# Altium schematic symbol library vmorais_libraries.SchLib: 65 symbols
Pins are listed as number, name and electrical type; pins without a type are passive.

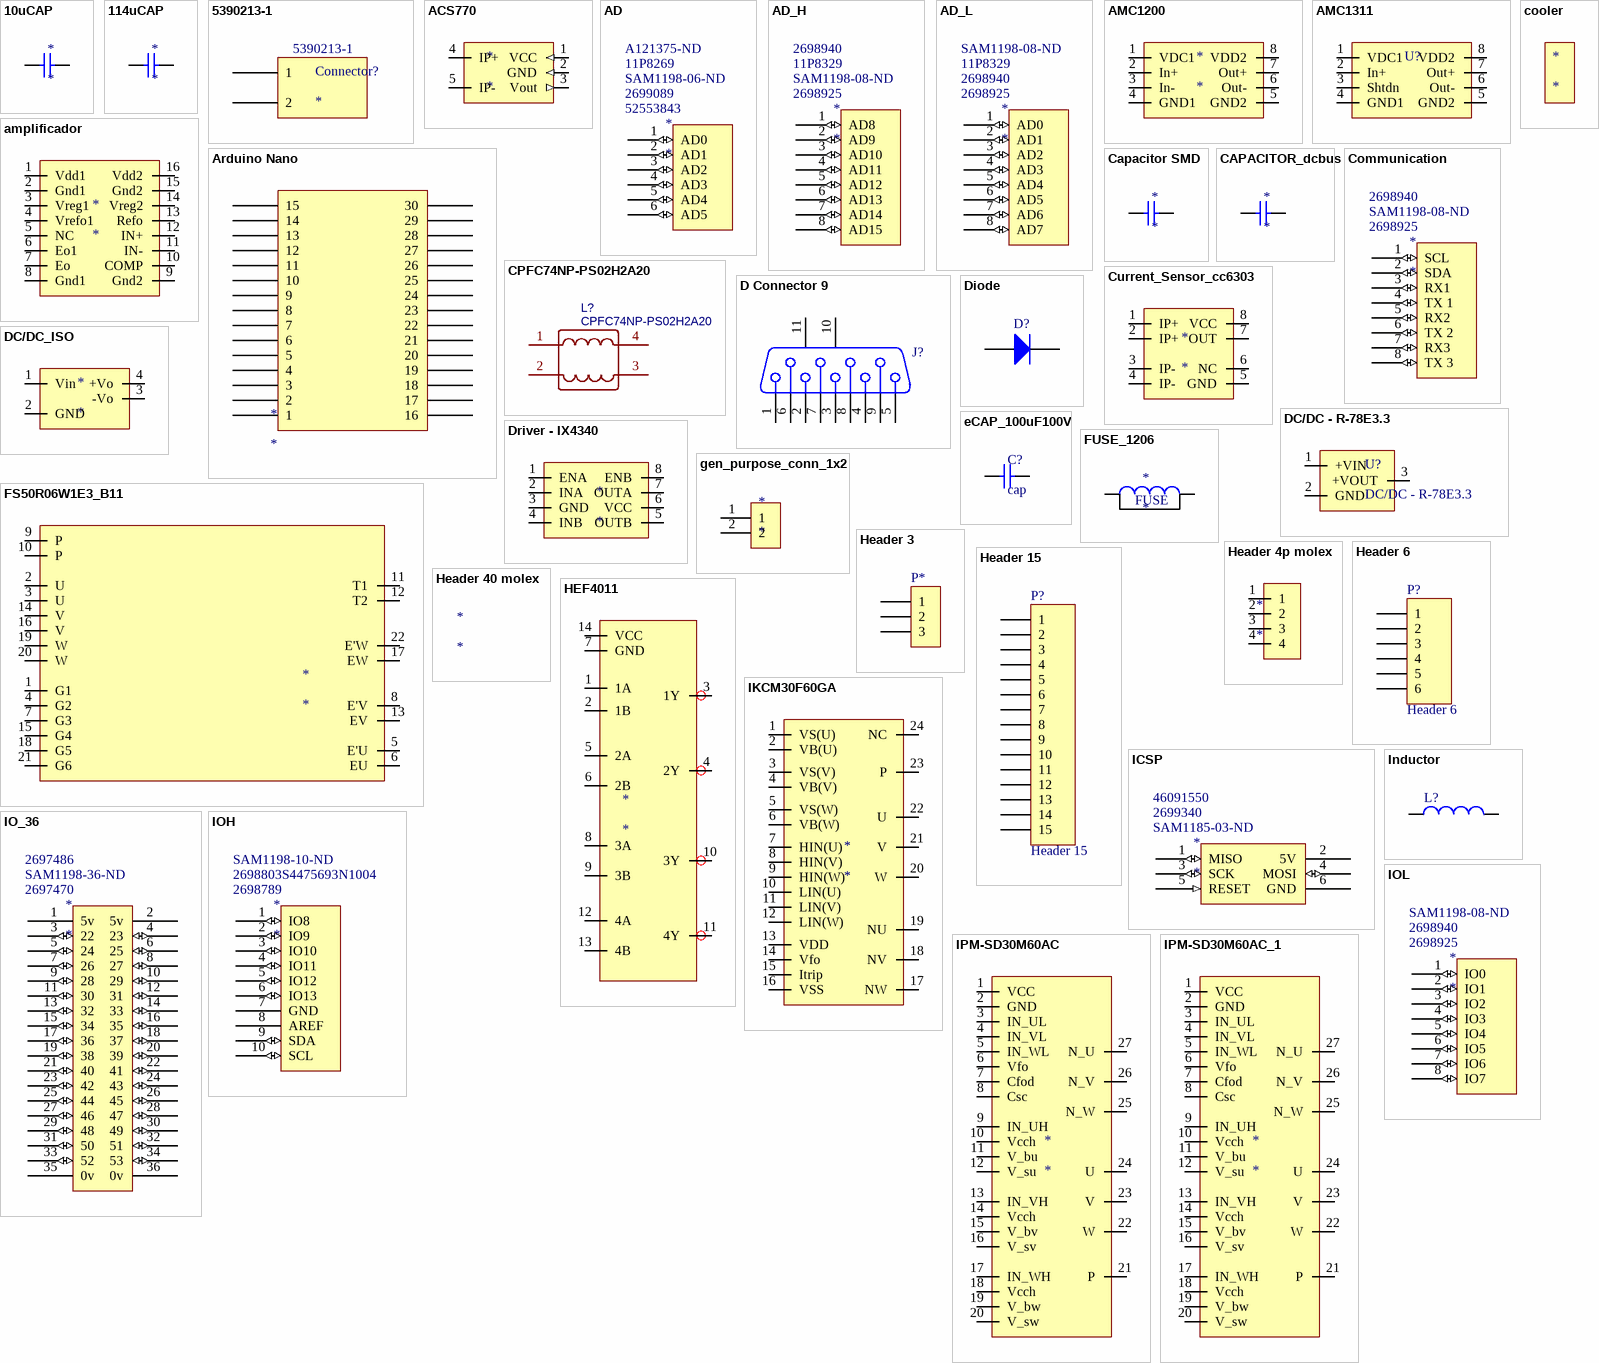
[diagram p0: symbols 10uCAP to IPM-SD30M60AC_1]

## 10uCAP
designator *
VPN: 75-MKP1848610704K2
footprint 10uCAP
pins: 1, 2

## 114uCAP
designator *
VPN: 505-DCP5-114/900/10
footprint 114uCAP (10uCAP)
pins: 1, 2

## 5390213-1
designator Connector?  Manufacturer Part Number: 5390213-1
CONN SKT DIMM 100POS PCB; Manufacturer: TE Connectivity AMP Connectors; Number of Positions: 100; Memory Type: DRAM; Standards: MO-161; Supplier 1: Digi-Key; RoHS: RoHS Compliant; Category: Connectors, Interconnects; Stock 1: 880; Pricing 1: 1=3.8, 10=3.648, 50=3.1916, 100=3.0397, 250=2.65972, 500=2.58372, 1000=2.20377, 2500=2.05178 (EUR); Packaging: Tube; Part Status: Active; Connector Style: DIMM; Mounting Type: Through Hole; Features: Board Guide, Latches; Mounting Feature: Normal, Standard - Top; Contact Finish: Gold; Contact Finish Thickness: 15µin (0.38µm); ComponentLink1URL: http://www.te.com/commerce/DocumentDelivery/DDEController?Action=srchrtrv&DocNm=5390213&DocType=Customer+Drawing&DocLang=English; ComponentLink1Description: http://www.te.com/commerce/DocumentDelivery/DDEController?Action=srchrtrv&DocNm=5390213&DocType=Customer+Drawing&DocLang=English; Supplier Part Number 1: A121375-ND
pins: 1, 2

## ACS770
designator *
footprint ACS770 (Connector; Header; 3 Position)
pins: 1 VCC (in), 2 GND (in), 3 Vout (out), 4 IP+ (power), 5 IP- (power)

## AD
designator *  Supplier Part Number 1: 52553843  Supplier Part Number 2: 2699089  Supplier Part Number 3: SAM1198-06-ND  Supplier Part Number 4: 11P8269  Supplier Part Number 5: A121375-ND
Supplier 1: Arrow; Supplier 2: Arrow; Supplier 3: Digi-Key; Supplier 4: Newark; Supplier 5: Digi-Key
footprint Header 6x1 8.5mm (Stackable 6 pin header)
pins: 1 AD0 (io), 2 AD1 (io), 3 AD2 (io), 4 AD3 (io), 5 AD4 (io), 6 AD5 (io)

## AD_H
designator *  Supplier Part Number 1: 2698925  Supplier Part Number 2: SAM1198-08-ND  Supplier Part Number 3: 11P8329  Supplier Part Number 4: 2698940
Supplier 1: Arrow; Supplier 2: Digi-Key; Supplier 3: Newark; Supplier 4: Arrow
footprint connector1x2_parafuso (Connector; Header; 2 Position)
pins: 1 AD8 (io), 2 AD9 (io), 3 AD10 (io), 4 AD11 (io), 5 AD12 (io), 6 AD13 (io), 7 AD14 (io), 8 AD15 (io)

## AD_L
designator *  Supplier Part Number 1: 2698925  Supplier Part Number 2: 2698940  Supplier Part Number 3: 11P8329  Supplier Part Number 4: SAM1198-08-ND
Supplier 1: Arrow; Supplier 2: Arrow; Supplier 3: Newark; Supplier 4: Digi-Key
footprint Header 8x1 8.5mm (Stackable 8 pin header)
pins: 1 AD0 (io), 2 AD1 (io), 3 AD2 (io), 4 AD3 (io), 5 AD4 (io), 6 AD5 (io), 7 AD6 (io), 8 AD7 (io)

## AMC1200
designator *
footprint AMC1200 - SOIC8
pins: 1 VDC1, 2 In+, 3 In-, 4 GND1, 5 GND2, 6 Out-, 7 Out+, 8 VDD2

## AMC1311
designator U?  (value not drawn)
footprint AMC1311 - SOIC8
pins: 1 VDC1, 2 In+, 3 Shtdn, 4 GND1, 5 GND2, 6 Out-, 7 Out+, 8 VDD2

## amplificador
designator *
footprint amplificador (SOP, 16-Leads, Body 4,90x3,91mm, Pitch 0,64mm, IPC Medium Density)
pins: 1 Vdd1, 2 Gnd1, 3 Vreg1, 4 Vrefo1, 5 NC, 6 Eo1, 7 Eo, 8 Gnd1, 9 Gnd2, 10 COMP, 11 IN-, 12 IN+, 13 Refo, 14 Vreg2, 15 Gnd2, 16 Vdd2

## Arduino Nano
designator *
footprint ARDUINO NANO
pins: 1, 2, 3, 4, 5, 6, 7, 8, 9, 10, 11, 12, 13, 14, 15, 16, 17, 18, 19, 20, 21, 22, 23, 24, 25, 26, 27, 28, 29, 30

## Capacitor SMD
designator *
Capacitor SMD
pins: 1, 2

## CAPACITOR_dcbus
designator *
VPN: 505-DCP5-114/900/10
footprint Capacitor_DCBUS
pins: 1, 2

## Communication
designator *  Supplier Part Number 1: 2698925  Supplier Part Number 2: SAM1198-08-ND  Supplier Part Number 3: 2698940
Supplier 1: Arrow; Supplier 2: Digi-Key; Supplier 3: Arrow
footprint Header 8x1 8.5mm (Stackable 8 pin header)
pins: 1 SCL (io), 2 SDA (io), 3 RX1 (io), 4 TX 1 (io), 5 RX2 (io), 6 TX 2 (io), 7 RX3 (io), 8 TX 3 (io)

## cooler
designator *
footprint COOLER

## CPFC74NP-PS02H2A20
designator L?
BOM_Manufacturer: Sumida; nameAlias: Value; Contributor: LCSC; SMT Type: Extend; BOM_Supplier: LCSC; BOM_Manufacturer Part: CPFC74NP-PS02H2A20; BOM_Supplier Part: C167312; BOM_LCSC Assembly: Yes; spicePre: L; spiceSymbolName: CPFC74NP-PS02H2A20
footprint FILTER-SMD_4P-L9.5-W5.5-BL
pins: 1, 2, 3, 4

## Current_Sensor_cc6303
designator *
footprint CC6303_SOP8 (SOP, 8-Leads, Body 4,90x3,91mm, Pitch 1,27mm, IPC Medium Density)
pins: 1 IP+, 2 IP+, 3 IP-, 4 IP-, 5 GND, 6 NC, 7 OUT, 8 VCC

## D Connector 9
designator J?
Receptacle Assembly, 9 Position, Right Angle; PackageDocument: O; Positions: 9; Published: 15-Jun-2001; LatestRevisionDate: 17-Jul-2002; LatestRevisionNote: Re-released for DXP Platform.; DatasheetDocument: 1-Sep-1999; PackageReference: 788750; Publisher: Altium Limited; Orientation: Right Angle; Gender: Receptacle
footprint DSUB1.385-2H9 (Connector; D Subminiature; 9 Position; Right Angle; Pitch 1.385 mm)
signal-integrity model Connector
pins: 1, 2, 3, 4, 5, 6, 7, 8, 9, 10 MH1, 11 MH2

## DC/DC - R-78E3.3
designator U?
footprint DC/DC - R-78E3.3
pins: 1 +VIN, 2 GND, 3 +VOUT

## DC/DC_ISO
designator *
footprint DC/DC_ISO
pins: 1 Vin, 2 GND, 3 -Vo, 4 +Vo

## Diode
designator D?
Default Diode; Published: 8-Jun-2000; LatestRevisionDate: 17-Jul-2002; LatestRevisionNote: Re-released for DXP Platform.; PackageVersion: Sep-1996; PackageReference: SMC; Publisher: Altium Limited; PackageDescription: DO-214-AB/SMC; 2 C-Bend Leads; Body 7.9 x 5.9 mm, inc. leads (LxW); Code_JEDEC: DO-214-AB
pins: 1 A, 2 K

## Driver - IX4340
designator *
footprint SOIC-MIC4126 (SOIC, 8-Leads, Body 5,08x3,95mm, Pitch 1,27mm, IPC Medium Density)
pins: 1 ENA, 2 INA, 3 GND, 4 INB, 5 OUTB, 6 VCC, 7 OUTA, 8 ENB

## eCAP_100uF100V
designator C?, comment cap
VPN: 75-MKP1848610704K2; LCSC: C224948
footprint eCAPC_4953 (Aluminum Electrolytic Capacitor, Body 13,00x13,00x13,50mm, IPC Low Density)
pins: 1, 2

## FS50R06W1E3_B11
designator *
footprint FS50R06W1E3_B11
pins: 1 G1 (power), 2 U (power), 3 U (power), 4 G2 (power), 5 E'U (power), 6 EU (power), 7 G3 (power), 8 E'V (power), 9 P (power), 10 P (power), 11 T1 (power), 12 T2 (power), 13 EV (power), 14 V (power), 15 G4 (power), 16 V (power), 17 EW (power), 18 G5 (power), 19 W (power), 20 W (power), 21 G6 (power), 22 E'W (power)

## FUSE_1206
designator *
footprint FUSE_1206 (Chip Diode; Body 3.2 x 1.6 mm (LxW typ))
pins: 1, 2
text: FUSE

## gen_purpose_conn_1x2
designator *
footprint connector1x2_parafuso (Connector; Header; 2 Position)
pins: 1, 2

## Header 3
designator P*  (value not drawn)
Header, 3 pin
signal-integrity model Connector
pins: 1, 2, 3

## Header 4p molex
designator *
footprint HEADER 4p molex (header 4p)
pins: 1, 2, 3, 4

## Header 6
designator P?
Header, 6-Pin; LatestRevisionDate: 17-Jul-2002; LatestRevisionNote: Re-released for DXP Platform.; Publisher: Altium Limited
footprint HDR1X6 (Connector; Header; 6 Position)
signal-integrity model Connector
pins: 1, 2, 3, 4, 5, 6

## Header 15
designator P?
Header, 15-Pin; LatestRevisionDate: 17-Jul-2002; LatestRevisionNote: Re-released for DXP Platform.; Publisher: Altium Limited
footprint HDR1X15 (Connector; Header; 15 Position)
signal-integrity model Connector
pins: 1, 2, 3, 4, 5, 6, 7, 8, 9, 10, 11, 12, 13, 14, 15

## Header 40 molex
designator *

## HEF4011
designator *
footprint SOIC-14N (SOIC, 14-Leads, Body 8,65x3,90mm, Pitch 1,27mm, IPC Medium Density)
pins: 1 1A, 2 1B, 3 1Y, 4 2Y, 5 2A, 6 2B, 7 GND, 8 3A, 9 3B, 10 3Y, 11 4Y, 12 4A, 13 4B, 14 VCC

## ICSP
designator *  Supplier Part Number 1: SAM1185-03-ND  Supplier Part Number 2: 2699340  Supplier Part Number 3: 46091550
Supplier 1: Digi-Key; Supplier 2: Arrow; Supplier 3: Arrow
footprint ICSP
pins: 1 MISO (io), 2 5V (power), 3 SCK (io), 4 MOSI (io), 5 RESET (in), 6 GND (power)

## IKCM30F60GA
designator *
footprint ikcm30f60ga
pins: 1 VS(U), 2 VB(U), 3 VS(V), 4 VB(V), 5 VS(W), 6 VB(W), 7 HIN(U), 8 HIN(V), 9 HIN(W), 10 LIN(U), 11 LIN(V), 12 LIN(W), 13 VDD, 14 Vfo, 15 Itrip, 16 VSS, 17 NW, 18 NV, 19 NU, 20 W, 21 V, 22 U, 23 P, 24 NC

## Inductor
designator L?
Inductor; Code_IEC: 1005; Published: 8-Jun-2000; LatestRevisionDate: 29-May-2009; LatestRevisionNote: IPC-7351 Footprint Added.; PackageReference: 0402-A; Publisher: Altium Limited; PackageDescription: Chip Inductor; Code_JEITA: 0402
footprint 0402-A (Chip Inductor, Body 1.0x0.5mm, IPC High Density)
footprint INDC1608L (Chip Inductor, Body 1.6x0.8mm, IPC High Density)
footprint 2029 (Chip Inductor, Body 2.0x1.2mm, IPC High Density)
footprint 0603 (Chip Inductor, Body 0.6x0.3mm, IPC High Density)
footprint INDC3216 (Chip Inductor, Body 3.2x1.6mm, IPC High Density)
footprint INDC4532 (Chip Inductor, Body 4.5x3.2mm, IPC High Density)
simulation model INDUCTOR (Inductor)
signal-integrity model Inductor
pins: 1, 2

## IO_36
designator *  Supplier Part Number 1: 2697470  Supplier Part Number 2: SAM1198-36-ND  Supplier Part Number 3: 2697486
Supplier 1: Arrow; Supplier 2: Digi-Key; Supplier 3: Arrow
footprint HEADER 36X 8MM (Stackable 10 pin header)
pins: 1 5v (power), 2 5v (power), 3 22 (io) "Digital 22", 4 23 (io) "Digital 23", 5 24 (io) "Digital 24", 6 25 (io) "Digital 25", 7 26 (io) "Digital 26", 8 27 (io) "Digital 27", 9 28 (io) "Digital 28", 10 29 (io) "Digital 29", 11 30 (io) "Digital 30", 12 31 (io) "Digital 31", 13 32 (io) "Digital 32", 14 33 (io) "Digital 33", 15 34 (io) "Digital 34", 16 35 (io) "Digital 35", 17 36 (io) "Digital 36", 18 37 (io) "Digital 37", 19 38 (io) "Digital 38", 20 39 (io) "Digital 39", 21 40 (io) "Digital 40", 22 41 (io) "Digital 41", 23 42 (io) "Digital 42", 24 43 (io) "Digital 43", 25 44 (io) "Digital 44", 26 45 (io) "Digital 45", 27 46 (io) "Digital 46", 28 47 (io) "Digital 47", 29 48 (io) "Digital 48", 30 49 (io) "Digital 49", 31 50 (io) "Digital 50", 32 51 (io) "Digital 51", 33 52 (io) "Digital 52", 34 53 (io) "Digital 53", 35 0v (power), 36 0v (power)

## IOH
designator *  Supplier Part Number 1: 2698789  Supplier Part Number 2: 2698803S4475693N1004  Supplier Part Number 3: SAM1198-10-ND
Supplier 1: Arrow; Supplier 2: Arrow; Supplier 3: Digi-Key
footprint Header 10x1 8.5mm (Stackable 10 pin header)
pins: 1 IO8 (io), 2 IO9 (io), 3 IO10 (io), 4 IO11 (io), 5 IO12 (io), 6 IO13 (io), 7 GND (power), 8 AREF, 9 SDA (io), 10 SCL (io)

## IOL
designator *  Supplier Part Number 1: 2698925  Supplier Part Number 2: 2698940  Supplier Part Number 3: SAM1198-08-ND
Supplier 1: Arrow; Supplier 2: Arrow; Supplier 3: Digi-Key
footprint Header 8x1 8.5mm (Stackable 8 pin header)
pins: 1 IO0 (io), 2 IO1 (io), 3 IO2 (io), 4 IO3 (io), 5 IO4 (io), 6 IO5 (io), 7 IO6 (io), 8 IO7 (io)

## IPM-SD30M60AC
designator *
footprint IPM-SD30M60AC
pins: 1 VCC, 2 GND, 3 IN_UL, 4 IN_VL, 5 IN_WL, 6 Vfo, 7 Cfod, 8 Csc, 9 IN_UH, 10 Vcch, 11 V_bu, 12 V_su, 13 IN_VH, 14 Vcch, 15 V_bv, 16 V_sv, 17 IN_WH, 18 Vcch, 19 V_bw, 20 V_sw, 21 P, 22 W, 23 V, 24 U, 25 N_W, 26 N_V, 27 N_U

## IPM-SD30M60AC_1
designator *
footprint IPM-SD30M60AC
pins: 1 VCC, 2 GND, 3 IN_UL, 4 IN_VL, 5 IN_WL, 6 Vfo, 7 Cfod, 8 Csc, 9 IN_UH, 10 Vcch, 11 V_bu, 12 V_su, 13 IN_VH, 14 Vcch, 15 V_bv, 16 V_sv, 17 IN_WH, 18 Vcch, 19 V_bw, 20 V_sw, 21 P, 22 W, 23 V, 24 U, 25 N_W, 26 N_V, 27 N_U

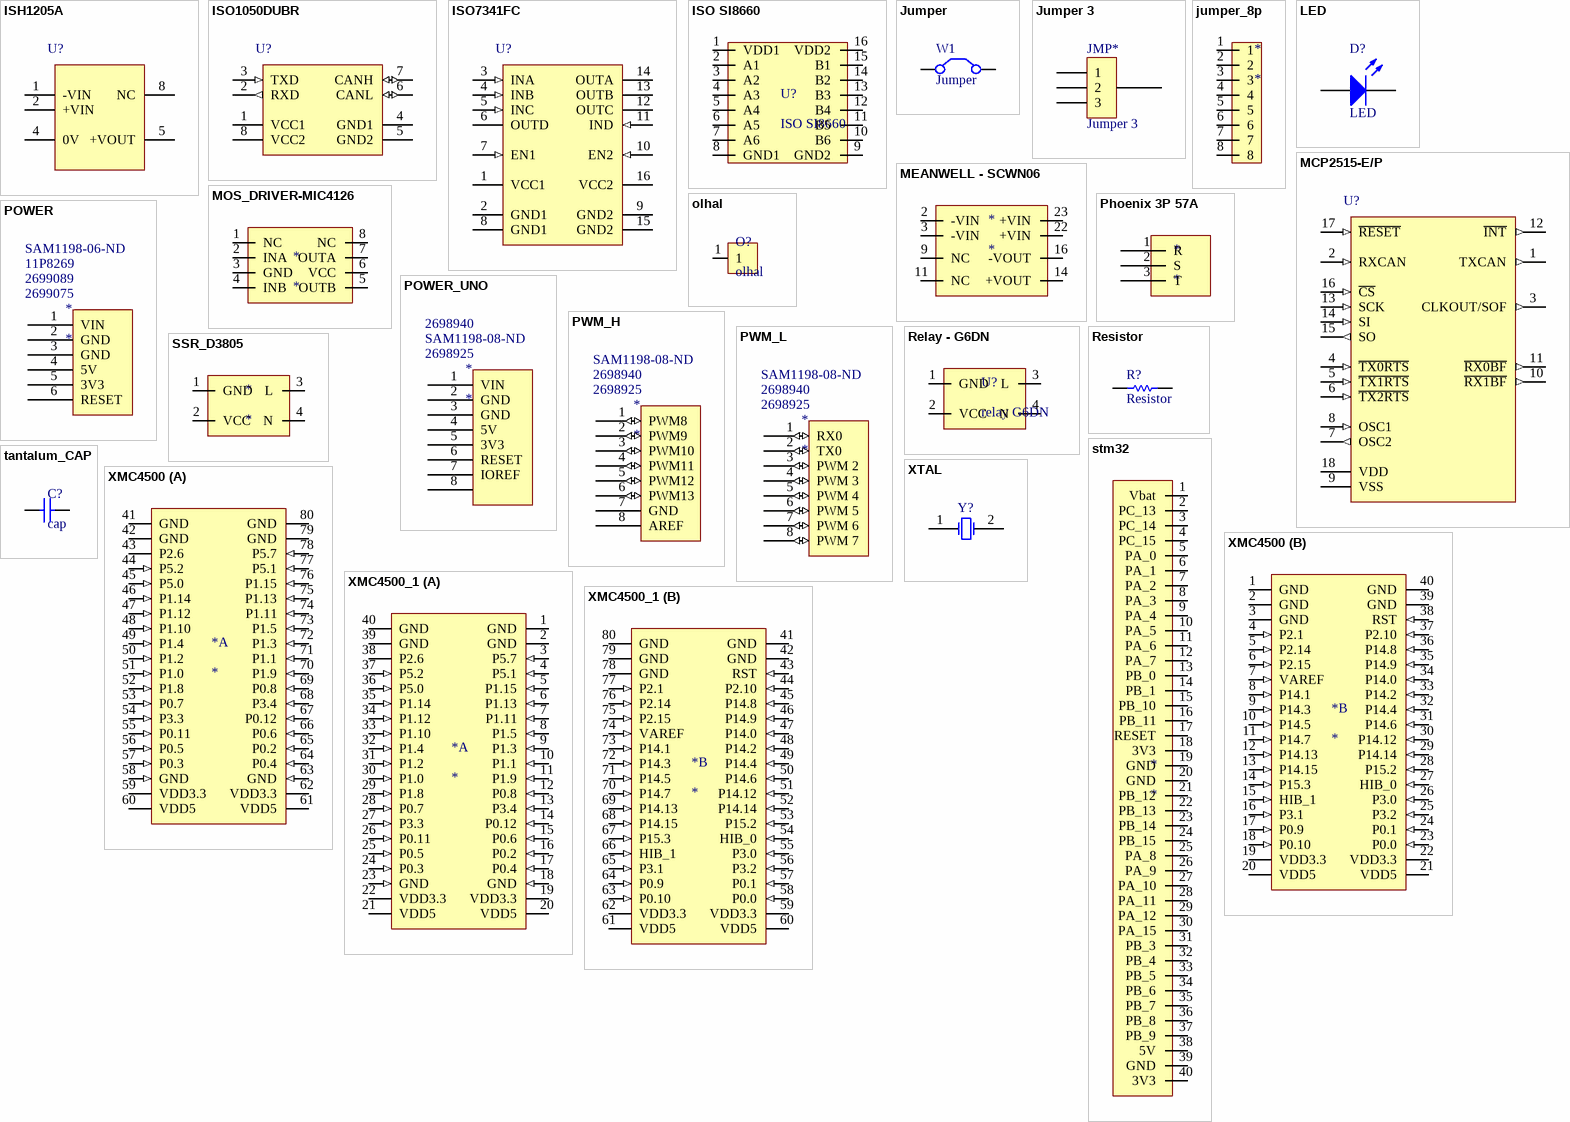
[diagram p1: symbols ISH1205A to XTAL]

## ISH1205A
designator U?
Isolated Module DC DC Converter 1 Output 5V 400mA 10.8V - 13.2V Input
footprint DUB8_M (SOP, 8-Leads, Body 9.5x6.62mm, Pitch 2.54mm, IPC Low Density)
footprint DUB8_L (SOP, 8-Leads, Body 9.5x6.62mm, Pitch 2.54mm, IPC High Density)
footprint DUB8_M (SOP, 8-Leads, Body 9.5x6.62mm, Pitch 2.54mm, IPC Low Density)
pins: 1 -VIN (power), 2 +VIN (power), 4 0V (power), 5 +VOUT (power), 8 NC (power)

## ISO1050DUBR
designator U?
Isolated CAN Transceiver, -55 to 105 degC, 8-pin SOP (DUB), Green (RoHS & no Sb/Br)
footprint DUB8_M (SOP, 8-Leads, Body 9.5x6.62mm, Pitch 2.54mm, IPC Low Density)
footprint DUB8_L (SOP, 8-Leads, Body 9.5x6.62mm, Pitch 2.54mm, IPC High Density)
footprint DUB8_M (SOP, 8-Leads, Body 9.5x6.62mm, Pitch 2.54mm, IPC Low Density)
pins: 1 VCC1 (power), 2 RXD (out), 3 TXD (in), 4 GND1 (power), 5 GND2 (power), 6 CANL (io), 7 CANH (io), 8 VCC2 (power)

## ISO7341FC
designator U?
25 Mbps Quad Channels, 3 / 1, Digital Isolator, 3.3 V / 5 V, -40 to +125 degC, 16-pin SOIC (DW), Green (RoHS & no Sb/Br); Manufacturer: Texas Instruments; PartNumber: ISO7241CDWR; Datarate(Mbps): 25; Input Noise Filter: Yes; Insulation Rating(VRMS): 2500; Prop Delay(Max)(ns): 42; Rating: Catalog; Supply Voltage(s)(V): 3.3, 5; TTL/CMOS Input Threshold: TTL; DatasheetVersion: SLLS868N; PackageVersion: 4040000-2/G, 01/2011; PackageReference: DW0016A; PackageDescription: 16-Pin Plastic Small Outline, Body 10.30 x 7.50 mm, Pitch 1.27 mm; Supplier 1: Digi-Key; Supplier Part Number 1: ISO7241CDWR-ND; Supplier 2: Newark; Supplier Part Number 2: 73M3156; Supplier 3: Mouser; Supplier Part Number 3: 595-ISO7241CDWR; SubFamily: Isolator; Thermal Shutdown: No; MountType: SMT; Code_JEDEC: MS-013; ComponentLink1Description: Manufacturer URL; ComponentLink1URL: http://www.ti.com/; ComponentLink2Description: Datasheet; ComponentLink2URL: http://www.ti.com/general/docs/lit/getliterature.tsp?genericPartNumber=ISO7241C&fileType=pdf; ComponentLink3Description: Package Specification; ComponentLink3URL: http://www.ti.com/litv/pdf/msoi003g; ComponentLink4Description: SamplesURL; ComponentLink4URL: http://www.ti.com/product/iso7241c#samples
footprint DW0016A_N (SOIC, 16-Leads, Body 10.5x7.6mm, Pitch 1.27mm, IPC Medium Density)
footprint DW0016A_L (SOIC, 16-Leads, Body 10.5x7.6mm, Pitch 1.27mm, IPC High Density)
footprint DW0016A_M (SOIC, 16-Leads, Body 10.5x7.6mm, Pitch 1.27mm, IPC Low Density)
pins: 1 VCC1 (power), 2 GND1 (power), 3 INA (in), 4 INB (in), 5 INC (in), 6 OUTD (hiz), 7 EN1 (in), 8 GND1 (power), 9 GND2 (power), 10 EN2 (in), 11 IND (in), 12 OUTC (hiz), 13 OUTB (hiz), 14 OUTA (hiz), 15 GND2 (power), 16 VCC2 (power)

## ISO SI8660
designator U?
footprint SOIC127P610X155-16N (SOIC, 16-Leads, Body 10,05x3,95mm, Pitch 1,27mm, IPC Medium Density)
pins: 1 VDD1, 2 A1, 3 A2, 4 A3, 5 A4, 6 A5, 7 A6, 8 GND1, 9 GND2, 10 B6, 11 B5, 12 B4, 13 B3, 14 B2, 15 B1, 16 VDD2

## Jumper
designator W1
Jumper Wire; Published: 24-Mar-1999; LatestRevisionDate: 17-Jul-2002; LatestRevisionNote: Re-released for DXP Platform.; PackageReference: RAD-0.2; Publisher: Altium Limited; PackageDescription: Radial Cap, Thru-Hole; 2 Leads; 0.2 in Pin Spacing
footprint RAD-0.2 (Radial Cap, Thru-Hole; 2 Leads; 0.2 in Pin Spacing)
pins: 1 C1, 2 C2

## Jumper 3
designator JMP*
Jumper, 3 pin
signal-integrity model Connector
pins: 1, 2, 2, 3

## jumper_8p
designator *
footprint Header 8x1 8.5mm (Stackable 8 pin header)
pins: 1, 2, 3, 4, 5, 6, 7, 8

## LED
designator D?
pins: 1 A, 2 K

## MCP2515-E/P
designator U?
Stand-Alone CAN Controller With SPI Interface, 18-Pin PDIP, Extended Temperature; Manufacturer: Microchip; PartNumber: MCP2515-E/P; DatasheetVersion: revF, Oct-2010; PackageVersion: revBB, Aug-2009; PackageReference: PDIP300-P18; PackageDescription: 18-Lead Plastic Dual In-Line (P) - 300 mil Body [PDIP]; Supplier 1: Digi-Key; Supplier Part Number 1: MCP2515-E/P-ND; Supplier 2: Newark; Supplier Part Number 2: 29H7133; Supplier 3: Mouser; Supplier Part Number 3: 579-MCP2515-E/P; Mounting Technology: Through Hole; Code_JEDEC: MS-001; ComponentLink1Description: Manufacturer URL; ComponentLink1URL: http://www.microchip.com/; ComponentLink2Description: Datasheet; ComponentLink2URL: http://ww1.microchip.com/downloads/en/DeviceDoc/21801f.pdf; ComponentLink3Description: Package Specification; ComponentLink3URL: http://www.microchip.com/stellent/groups/techpub_sg/documents/packagingspec/en012702.pdf
footprint SOIC-SO18_M (SOIC, 18-Leads, Body 11.5x7.5mm, Pitch 1.27mm, IPC Low Density)
pins: 1 TXCAN (out), 2 RXCAN (in), 3 CLKOUT/SOF (out), 4 ~{TX0RTS} (in), 5 ~{TX1RTS} (in), 6 ~{TX2RTS} (in), 7 OSC2 (out), 8 OSC1 (in), 9 VSS (power), 10 ~{RX1BF} (out), 11 ~{RX0BF} (out), 12 ~{INT} (out), 13 SCK (in), 14 SI (in), 15 SO (out), 16 ~{CS} (in), 17 ~{RESET} (in), 18 VDD (power)

## MEANWELL - SCWN06
designator *
footprint MeanWell SCWNo6
pins: 2 -VIN, 3 -VIN, 9 NC, 11 NC, 14 +VOUT, 16 -VOUT, 22 +VIN, 23 +VIN

## MOS_DRIVER-MIC4126
designator *
footprint SOIC-MIC4126 (SOIC, 8-Leads, Body 5,08x3,95mm, Pitch 1,27mm, IPC Medium Density)
pins: 1 NC, 2 INA, 3 GND, 4 INB, 5 OUTB, 6 VCC, 7 OUTA, 8 NC

## olhal
designator O?
footprint Olhal
pins: 1

## Phoenix 3P 57A
designator *
footprint Phoenix 3p 57A
pins: 1 R, 2 S, 3 T

## POWER
designator *  Supplier Part Number 1: 2699075  Supplier Part Number 2: 2699089  Supplier Part Number 3: 11P8269  Supplier Part Number 4: SAM1198-06-ND
Supplier 1: Arrow; Supplier 2: Arrow; Supplier 3: Newark; Supplier 4: Digi-Key
footprint Header 6x1 8.5mm (Stackable 6 pin header)
pins: 1 VIN (power), 2 GND (power), 3 GND (power), 4 5V (power), 5 3V3 (power), 6 RESET

## POWER_UNO
designator *  Supplier Part Number 1: 2698925  Supplier Part Number 2: SAM1198-08-ND  Supplier Part Number 3: 2698940
Supplier 1: Arrow; Supplier 2: Digi-Key; Supplier 3: Arrow
footprint Header 8x1 8.5mm (Stackable 8 pin header)
pins: 1 VIN (power), 2 GND (power), 3 GND (power), 4 5V (power), 5 3V3 (power), 6 RESET, 7 IOREF (power), 8

## PWM_H
designator *  Supplier Part Number 1: 2698925  Supplier Part Number 2: 2698940  Supplier Part Number 3: SAM1198-08-ND
Supplier 1: Arrow; Supplier 2: Arrow; Supplier 3: Digi-Key
footprint Header 8x1 8.5mm (Stackable 8 pin header)
pins: 1 PWM8 (io) "PWM 8", 2 PWM9 (io) "PWM 9", 3 PWM10 (io) "PWM 10", 4 PWM11 (io) "PWM 11", 5 PWM12 (io) "PWM 12", 6 PWM13 (io) "PWM 13", 7 GND (power), 8 AREF

## PWM_L
designator *  Supplier Part Number 1: 2698925  Supplier Part Number 2: 2698940  Supplier Part Number 3: SAM1198-08-ND
Supplier 1: Arrow; Supplier 2: Arrow; Supplier 3: Digi-Key
footprint Header 8x1 8.5mm (Stackable 8 pin header)
pins: 1 RX0 (io) "PWM 0 & RX0", 2 TX0 (io) "PWM 1 & TX0", 3 PWM 2 (io), 4 PWM 3 (io), 5 PWM 4 (io), 6 PWM 5 (io), 7 PWM 6 (io), 8 PWM 7 (io)

## Relay - G6DN
designator U?, comment relay G6DN
footprint Relay - G6DN
pins: 1 GND, 2 VCC, 3 L, 4 N

## Resistor
designator R?
pins: 1, 2

## SSR_D3805
designator *
footprint SSR_D3805HK
pins: 1 GND, 2 VCC, 3 L, 4 N

## stm32
designator *
footprint STM32
pins: 1 Vbat, 2 PC_13, 3 PC_14, 4 PC_15, 5 PA_0, 6 PA_1, 7 PA_2, 8 PA_3, 9 PA_4, 10 PA_5, 11 PA_6, 12 PA_7, 13 PB_0, 14 PB_1, 15 PB_10, 16 PB_11, 17 RESET, 18 3V3, 19 GND, 20 GND, 21 PB_12, 22 PB_13, 23 PB_14, 24 PB_15, 25 PA_8, 26 PA_9, 27 PA_10, 28 PA_11, 29 PA_12, 30 PA_15, 31 PB_3, 32 PB_4, 33 PB_5, 34 PB_6, 35 PB_7, 36 PB_8, 37 PB_9, 38 5V, 39 GND, 40 3V3

## tantalum_CAP
designator C?, comment cap
VPN: 75-MKP1848610704K2; LCSC: C224948
footprint CAPC_2917 (Chip Capacitor, 2-Leads, Body 7,30x4,20mm, IPC Medium Density)
pins: 1, 2

## XMC4500
designator *
footprint XMC4500
part A pins: 41 GND (power), 42 GND (power), 43 P2.6 (power), 44 P5.2 (in), 45 P5.0 (in), 46 P1.14 (in), 47 P1.12 (in), 48 P1.10 (in), 49 P1.4 (in), 50 P1.2 (in), 51 P1.0 (in), 52 P1.8 (in), 53 P0.7 (in), 54 P3.3 (in), 55 P0.11 (in), 56 P0.5 (in), 57 P0.3 (in), 58 GND (in), 59 VDD3.3 (power), 60 VDD5 (power), 61 VDD5 (power), 62 VDD3.3 (power), 63 GND (in), 64 P0.4 (in), 65 P0.2 (in), 66 P0.6 (in), 67 P0.12 (in), 68 P3.4 (in), 69 P0.8 (in), 70 P1.9 (in), 71 P1.1 (in), 72 P1.3 (in), 73 P1.5 (in), 74 P1.11 (in), 75 P1.13 (in), 76 P1.15 (in), 77 P5.1 (in), 78 P5.7 (in), 79 GND (power), 80 GND (power)
part B pins: 1 GND (power), 2 GND (power), 3 GND (power), 4 P2.1 (in), 5 P2.14 (in), 6 P2.15 (in), 7 VAREF (in), 8 P14.1 (in), 9 P14.3 (in), 10 P14.5 (in), 11 P14.7 (in), 12 P14.13 (in), 13 P14.15 (in), 14 P15.3 (in), 15 HIB_1 (in), 16 P3.1 (in), 17 P0.9 (in), 18 P0.10 (in), 19 VDD3.3 (power), 20 VDD5 (power), 21 VDD5 (power), 22 VDD3.3 (power), 23 P0.0 (in), 24 P0.1 (in), 25 P3.2 (in), 26 P3.0 (in), 27 HIB_0 (in), 28 P15.2 (in), 29 P14.14 (in), 30 P14.12 (in), 31 P14.6 (in), 32 P14.4 (in), 33 P14.2 (in), 34 P14.0 (in), 35 P14.9 (in), 36 P14.8 (in), 37 P2.10 (in), 38 RST (in), 39 GND (power), 40 GND (power)

## XMC4500_1
designator *
footprint XMC4500
part A pins: 1 GND (power), 2 GND (power), 3 P5.7 (in), 4 P5.1 (in), 5 P1.15 (in), 6 P1.13 (in), 7 P1.11 (in), 8 P1.5 (in), 9 P1.3 (in), 10 P1.1 (in), 11 P1.9 (in), 12 P0.8 (in), 13 P3.4 (in), 14 P0.12 (in), 15 P0.6 (in), 16 P0.2 (in), 17 P0.4 (in), 18 GND (in), 19 VDD3.3 (power), 20 VDD5 (power), 21 VDD5 (power), 22 VDD3.3 (power), 23 GND (in), 24 P0.3 (in), 25 P0.5 (in), 26 P0.11 (in), 27 P3.3 (in), 28 P0.7 (in), 29 P1.8 (in), 30 P1.0 (in), 31 P1.2 (in), 32 P1.4 (in), 33 P1.10 (in), 34 P1.12 (in), 35 P1.14 (in), 36 P5.0 (in), 37 P5.2 (in), 38 P2.6 (power), 39 GND (power), 40 GND (power)
part B pins: 41 GND (power), 42 GND (power), 43 RST (in), 44 P2.10 (in), 45 P14.8 (in), 46 P14.9 (in), 47 P14.0 (in), 48 P14.2 (in), 49 P14.4 (in), 50 P14.6 (in), 51 P14.12 (in), 52 P14.14 (in), 53 P15.2 (in), 54 HIB_0 (in), 55 P3.0 (in), 56 P3.2 (in), 57 P0.1 (in), 58 P0.0 (in), 59 VDD3.3 (power), 60 VDD5 (power), 61 VDD5 (power), 62 VDD3.3 (power), 63 P0.10 (in), 64 P0.9 (in), 65 P3.1 (in), 66 HIB_1 (in), 67 P15.3 (in), 68 P14.15 (in), 69 P14.13 (in), 70 P14.7 (in), 71 P14.5 (in), 72 P14.3 (in), 73 P14.1 (in), 74 VAREF (in), 75 P2.15 (in), 76 P2.14 (in), 77 P2.1 (in), 78 GND (power), 79 GND (power), 80 GND (power)

## XTAL
designator Y?
Crystal Oscillator; Published: 8-Jun-2000; LatestRevisionDate: 17-Jul-2002; LatestRevisionNote: Re-released for DXP Platform.; PackageReference: R38; Publisher: Altium Limited; PackageDescription: Crystal, Thru-Hole; 2 Leads; Body 3.1 x 8.2 mm (Dia.xH)
footprint R38 (Crystal, Thru-Hole; 2 Leads; Body 3.1 x 8.2 mm (Dia.xH))
simulation model XTAL (Spice Subcircuit)
pins: 1 OSC1, 2 OSC2